# Altium schematic symbol library 7400_series.SCHLIB: 20 symbols
Pins are listed as number, name and electrical type; pins without a type are passive.

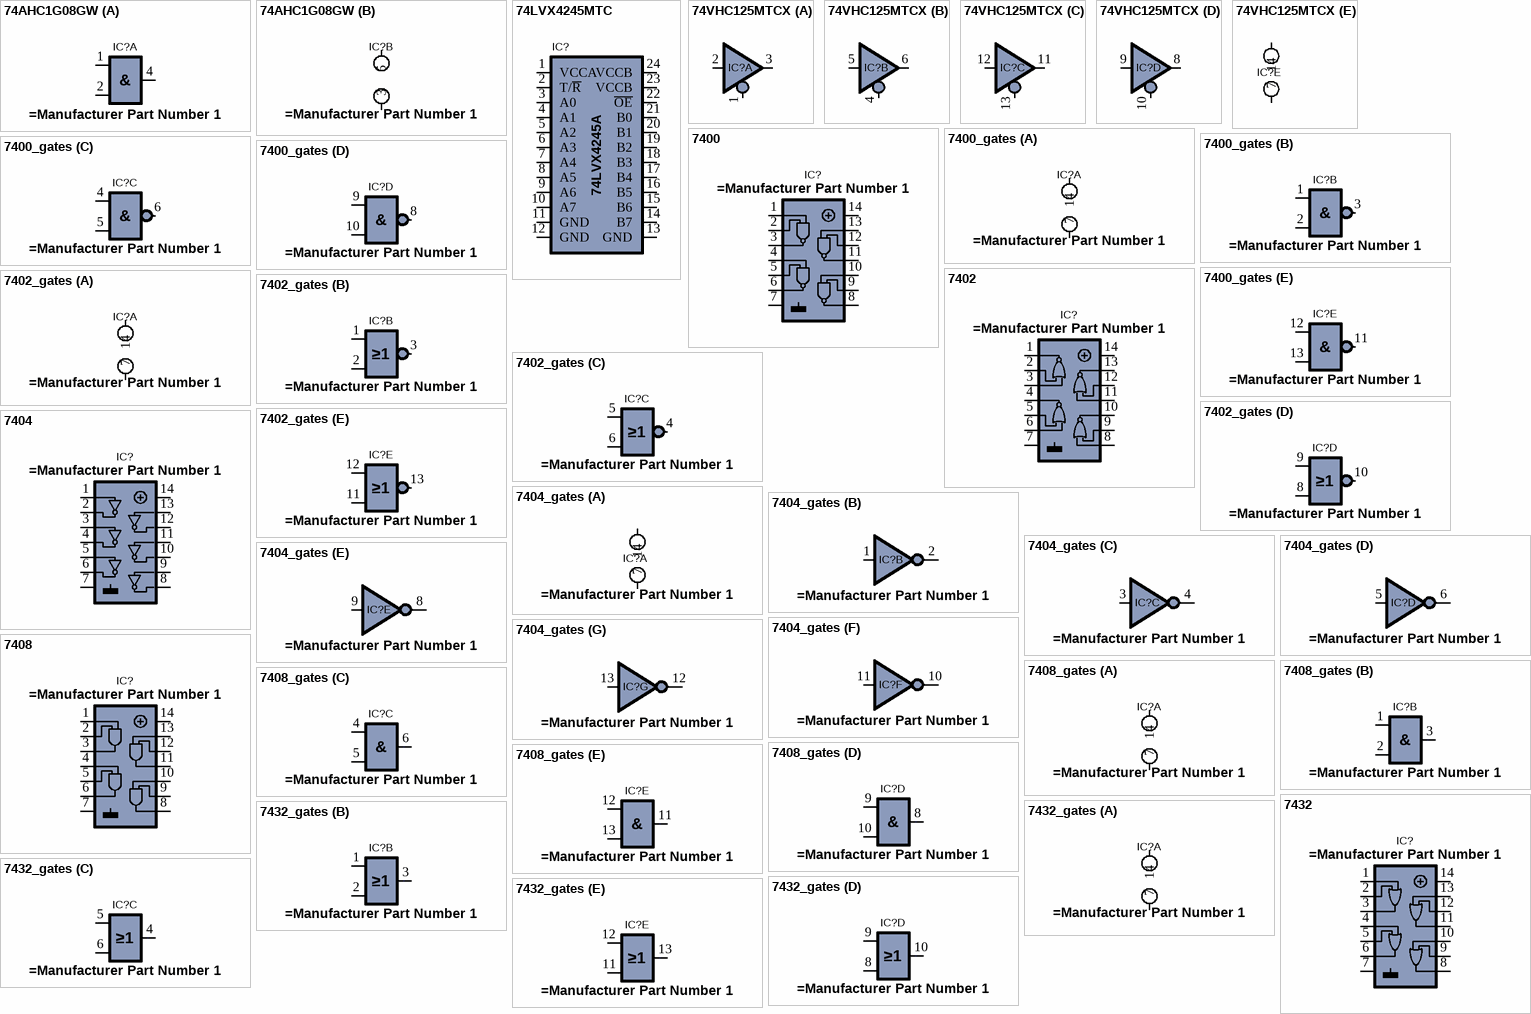
[diagram p0: symbols 74AHC1G08GW to 7432_gates]

## 74AHC1G08GW
designator IC?
General symbol for 74AHC1G08GW
part A pins: 1 B, 2 A, 4 Y
part B pins: 3, 5
part A text: &

## 74LVX4245MTC
designator IC?, comment 74LVX4245A
Translating Transceiver with 3-state
footprint TSSOP65P640X110-24N (TSOP, 24-Leads, Body 7,80x4,40mm, Pitch 0,65mm, IPC Medium Density)
pins: 1 VCCA, 2 T/~{R}, 3 A0, 4 A1, 5 A2, 6 A3, 7 A4, 8 A5, 9 A6, 10 A7, 11 GND, 12 GND, 13 GND, 14 B7, 15 B6, 16 B5, 17 B4, 18 B3, 19 B2, 20 B1, 21 B0, 22 ~{OE}, 23 VCCB, 24 VCCB

## 74VHC125MTCX
designator IC?, comment 74VHC125  (value not drawn)
Quad buffer with tri-state outputs
footprint TSSOP65P540X450X120-14N (TSSOP, 14-Leads, Body 5.4x4.5mm (max), Pitch 0.65mm, IPC Medium Density)
part A pins: 1 ~{A0}, 2 B0, 3 O0
part B pins: 4 ~{A1}, 5 B1, 6 O1
part C pins: 11 O2, 12 B2, 13 ~{A2}
part D pins: 8 O3, 9 B3, 10 ~{A3}
part E pins: 7, 14

## 7400
designator IC?
pins: 1 A1, 2 B1, 3 Y1, 4 A2, 5 B2, 6 Y2, 7 GND, 8 Y3, 9 A3, 10 B3, 11 Y4, 12 A4, 13 B4, 14 VCC

## 7400_gates
designator IC?
part A pins: 7, 14
part B pins: 1 A1, 2 B1, 3 Y1
part C pins: 4 A2, 5 B2, 6 Y2
part D pins: 8 Y3, 9 A3, 10 B3
part E pins: 11 Y4, 12 A4, 13 B4
part B text: &
part C text: &
part D text: &
part E text: &

## 7402
designator IC?
pins: 1 Y1, 2 A1, 3 B1, 4 Y2, 5 A2, 6 B2, 7 GND, 8 B3, 9 A3, 10 Y3, 11 B4, 12 A4, 13 Y4, 14 VCC

## 7402_gates
designator IC?
part A pins: 7, 14
part B pins: 1 A1, 2 B1, 3 Y1
part C pins: 4 Y2, 5 A2, 6 B2
part D pins: 8 B3, 9 A3, 10 Y3
part E pins: 11 B4, 12 A4, 13 Y4
part B text: ≥1
part C text: ≥1
part D text: ≥1
part E text: ≥1

## 7404
designator IC?
pins: 1 A1, 2 Y1, 3 A2, 4 Y2, 5 A3, 6 Y3, 7 GND, 8 Y4, 9 A4, 10 Y5, 11 A5, 12 Y6, 13 A6, 14 VCC

## 7404_gates
designator IC?
part A pins: 7, 14
part B pins: 1 A1, 2 Y1
part C pins: 3 A2, 4 Y2
part D pins: 5 A3, 6 Y3
part E pins: 8 Y4, 9 A4
part F pins: 10 Y5, 11 A5
part G pins: 12 Y6, 13 A6

## 7408
designator IC?
pins: 1 A1, 2 B1, 3 Y1, 4 A2, 5 B2, 6 Y2, 7 GND, 8 Y3, 9 A3, 10 B3, 11 Y4, 12 A4, 13 B4, 14 VCC

## 7408_gates
designator IC?
part A pins: 7, 14
part B pins: 1 A1, 2 B1, 3 Y1
part C pins: 4 A2, 5 B2, 6 Y2
part D pins: 8 Y3, 9 A3, 10 B3
part E pins: 11 Y4, 12 A4, 13 B4
part B text: &
part C text: &
part D text: &
part E text: &

## 7432
designator IC?
pins: 1 A1, 2 B1, 3 Y1, 4 A2, 5 B2, 6 Y2, 7 GND, 8 Y3, 9 A3, 10 B3, 11 Y4, 12 A4, 13 B4, 14 VCC

## 7432_gates
designator IC?
part A pins: 7, 14
part B pins: 1 A1, 2 B1, 3 Y1
part C pins: 4 Y2, 5 A2, 6 B2
part D pins: 8 B3, 9 A3, 10 Y3
part E pins: 11 B4, 12 A4, 13 Y4
part B text: ≥1
part C text: ≥1
part D text: ≥1
part E text: ≥1

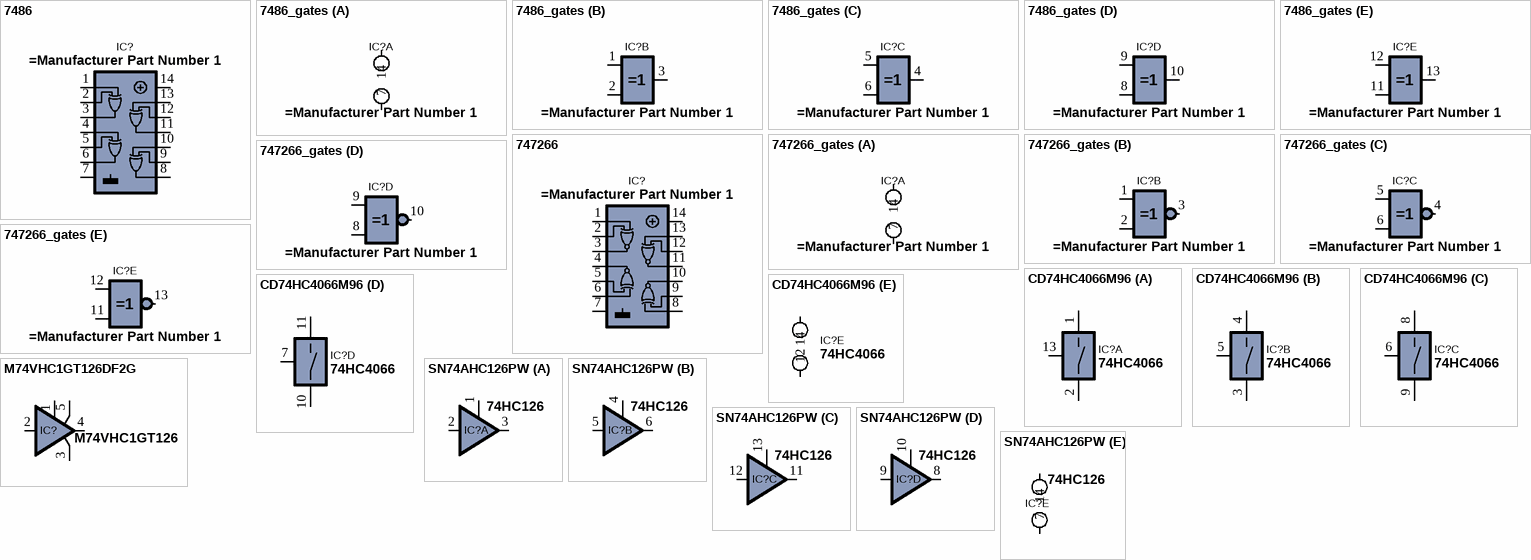
[diagram p1: symbols 7486 to SN74AHC126PW]

## 7486
designator IC?
pins: 1 A1, 2 B1, 3 Y1, 4 A2, 5 B2, 6 Y2, 7 GND, 8 Y3, 9 A3, 10 B3, 11 Y4, 12 A4, 13 B4, 14 VCC

## 7486_gates
designator IC?
part A pins: 7, 14
part B pins: 1 A1, 2 B1, 3 Y1
part C pins: 4 Y2, 5 A2, 6 B2
part D pins: 8 B3, 9 A3, 10 Y3
part E pins: 11 B4, 12 A4, 13 Y4

## 747266
designator IC?
pins: 1 A1, 2 B1, 3 Y1, 4 Y2, 5 A2, 6 B2, 7 GND, 8 B3, 9 A3, 10 Y3, 11 Y4, 12 A4, 13 B4, 14 VCC

## 747266_gates
designator IC?
part A pins: 7, 14
part B pins: 1 A1, 2 B1, 3 Y1
part C pins: 4 Y2, 5 A2, 6 B2
part D pins: 8 B3, 9 A3, 10 Y3
part E pins: 11 B4, 12 A4, 13 Y4

## CD74HC4066M96
designator IC?, comment 74HC4066
Quad bilateral switch; Manufacturer 1: Texas Instruments; Manufacturer Part Number 1: CD74HC4066M96; Supplier 1: Farnell; Supplier Part Number 1: 2463676; Verified: NO
footprint SOIC127P600X175-14N
part A pins: 1 B, 2 A, 13 Y
part B pins: 3 A, 4 Y, 5 Y
part C pins: 6 Y, 8 Y, 9 Y
part D pins: 7 Y, 10 Y, 11 Y
part E pins: 12, 14

## M74VHC1GT126DF2G
designator IC?, comment M74VHC1GT126
Noninverting buffer / CMOS logic level shifter; Manufacturer 1: ON; Manufacturer Part Number 1: M74VHC1GT126DF2G; Supplier 1: Farnell; Supplier Part Number 1: 2464476
footprint SOT65P230X100-5N (SOT353, SC-70-5)
pins: 1 OE, 2 IN A, 3 GND, 4 OUT Y, 5 VCC

## SN74AHC126PW
designator IC?, comment 74HC126
Quad buffer with tri-state outputs; Manufacturer 1: Texas Instruments; Manufacturer Part Number 1: SN74AHC126PW; Supplier 1: Farnell; Supplier Part Number 1: 1740922; Verified: NO
footprint TSSOP65P540X450X120-14N (TSSOP, 14-Leads, Body 5.4x4.5mm (max), Pitch 0.65mm, IPC Medium Density)
part A pins: 1 ~{A0}, 2 B0, 3 O0
part B pins: 4 ~{A1}, 5 B1, 6 O1
part C pins: 11 O2, 12 B2, 13 ~{A2}
part D pins: 8 O3, 9 B3, 10 ~{A3}
part E pins: 7, 14